# Altium schematic symbol library U_AOZ1282CI.SchLib: 1 symbol
Pins are listed as number, name and electrical type; pins without a type are passive.

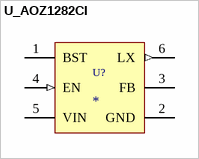
[diagram p0: symbol U_AOZ1282CI]

## U_AOZ1282CI
designator U?
pins: 1 BST (power) "Bootstrap Voltage Input. High side driver supply. Connected to 100nF capacitor between BST and LX.", 2 GND (power) "Ground.", 3 FB "Feedback Input. It is regulated to 0.8V. The FB pin is used to determine the PWM output voltage via a resistor divider between the output and GND.", 4 EN (in) "Enable Pin. The enable pin is active high. Connect EN pin to VIN through current limiting resistor. Do not leave the EN pin floating.", 5 VIN (power) "Supply Voltage Input. Range from 4.5V to 36V. When VIN rises above the UVLO threshold the device starts up.", 6 LX (out) "PWM Output. Connect to inductor."